# Altium footprint library Alcetronics_Devices.PcbLib: 71 footprints (part 2 of 5)
Each footprint in its own frame and in the unit in brackets; x right, y up, seen from the top. Pads: shape width x height; smd on the part's side, far side on the other; paste and mask are expansions set on the pad; w line width, h text height; cw(c..) or ccw(c..) is an arc to the next point about the centre after c.
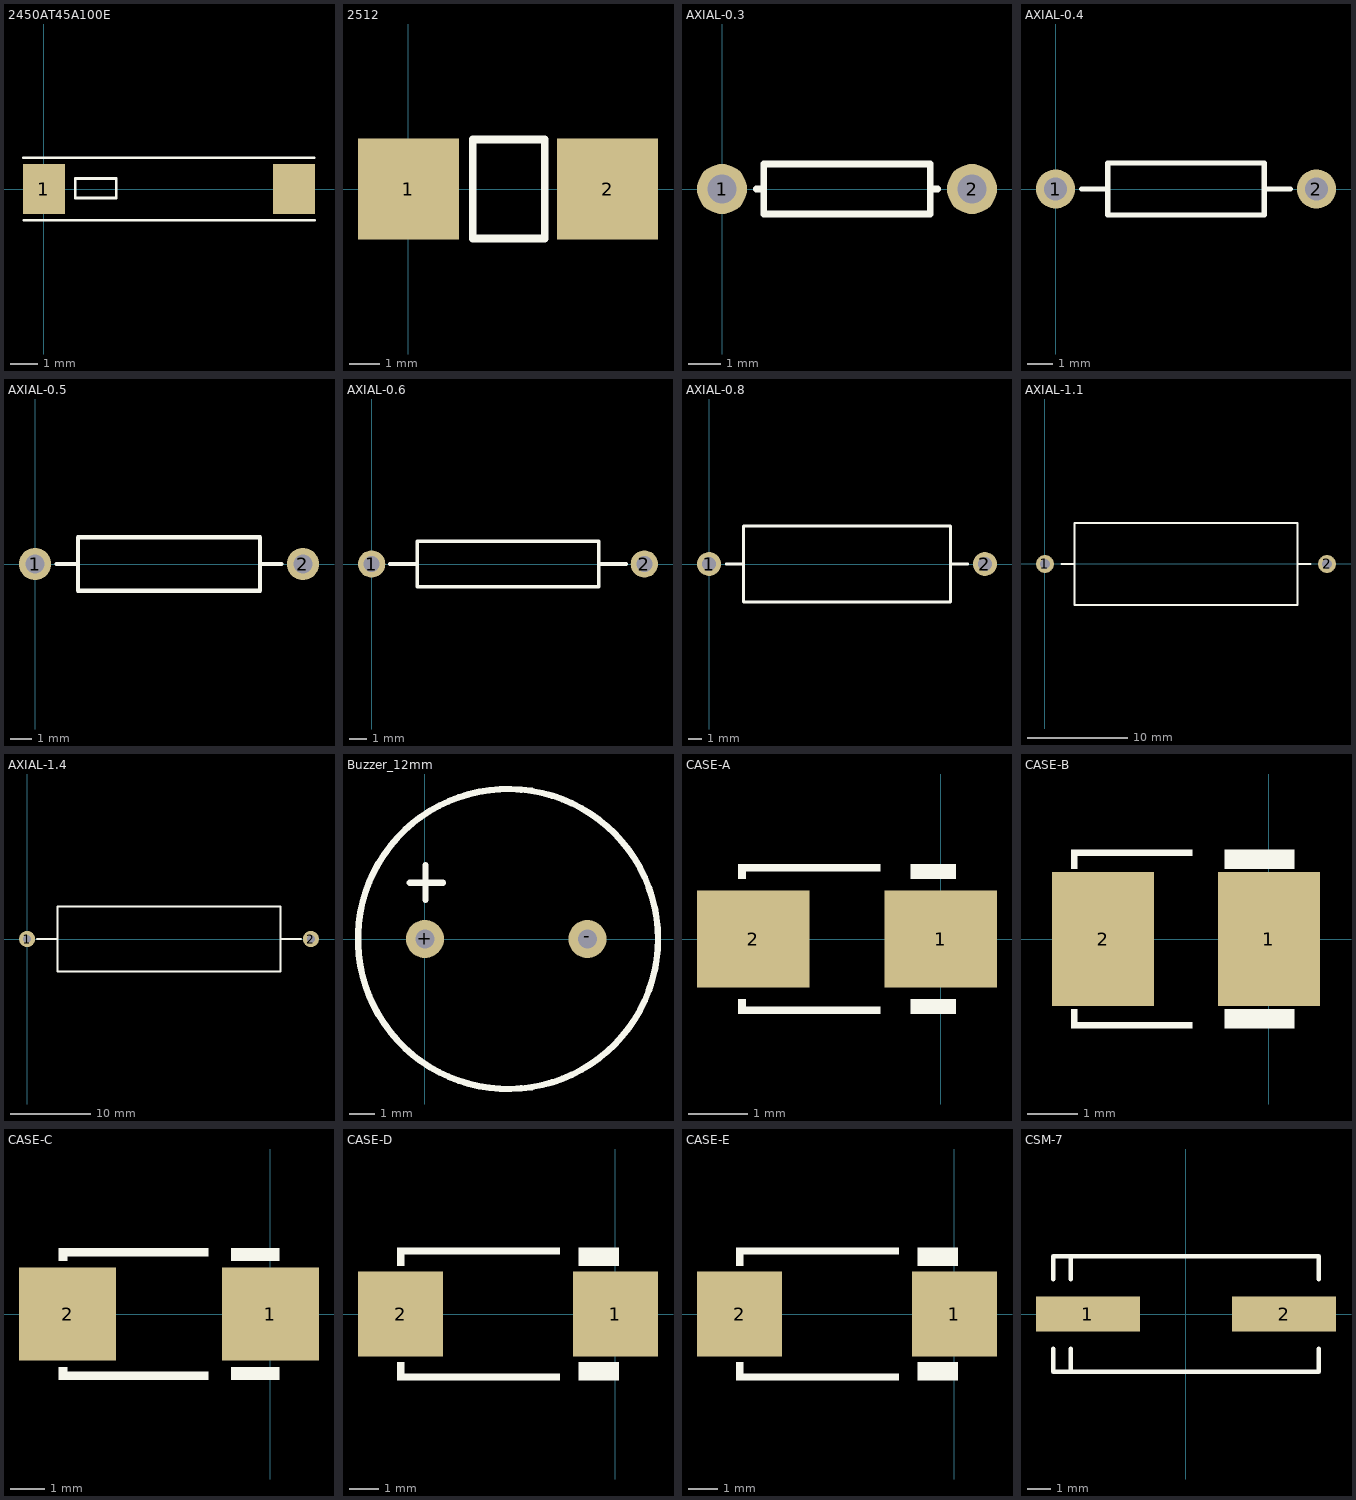
[diagram p1: the footprints below, top view; thin cyan lines are the x and y axes]

## 2450AT45A100E [mm]
pads (2):
  rect 1.5x1.8 smd: 1(0,0) ""(9,0)
Top Overlay:
  lines w0.1: -0.75,1.125 9.725,1.125 ; -0.725,-1.125 9.75,-1.125 ; 1.125,-0.325 2.075,-0.325 2.6,-0.325 2.6,0.375 1.125,0.375 1.125,-0.325

## 2512 [mil]
pads (2):
  rect 130x130 smd: 1(0,0) 2(257,0)
Top Overlay:
  lines w10: 83,-64 176,-64 176,64 83,64 83,-64

## AXIAL-0.3 [mil] "Resistor; 2 Leads"
pads (2):
  round 60 hole 35: 1(0,0) 2(300,0)
Top Overlay:
  lines w7.87: 41,0 50,0 ; 259,0 250,0 ; 250,0 250,-30 50,-30 50,30 250,30 250,0

## AXIAL-0.4 [mil] "Resistor; 2 Leads"
pads (2):
  round 60 hole 35: 1(0,0) 2(400,0)
Top Overlay:
  lines w7.87: 40,0 80,0 ; 320,0 360,0 ; 80,-40 320,-40 320,40 80,40 80,-40

## AXIAL-0.5 [mil] "500mil between pads, 340mil body length and 100mil body width"
height 100
pads (2):
  round 60 hole 35: 1(0,0) 2(500,0)
Top Overlay:
  lines w7.87: 40,0 80,0 ; 420,0 460,0 ; 80,-50 80,50 420,50 420,-50 80,-50

## AXIAL-0.6 [mil] "Axial L=15.24mm(0.6in) H=0.85mm"
pads (2):
  round 60 hole 35: 1(0,0) 2(600,0)
Top Overlay:
  lines w7.87: 40,0 100,0 ; 500,0 560,0 ; 100,-50 100,50 500,50 500,-50 100,-50

## AXIAL-0.8 [mil] "800mil between pads, 600mil body length and 220mil body width"
height 220
pads (2):
  round 70 hole 40: 1(0,0) 2(800,0)
Top Overlay:
  lines w7.87: 50,0 100,0 ; 700,0 750,0 ; 100,-110 100,110 245,110 545,110 700,110 700,-110 100,-110

## AXIAL-1.1 [mil] "1100mil between pads, 1070mil body length and 320mil body width"
height 320
pads (2):
  round 70 hole 40: 1(0,0) 2(1100,0)
Top Overlay:
  lines w7.87: 65,0 115,0 ; 985,0 1035,0 ; 115,-160 985,-160 985,160 115,160 115,-160

## AXIAL-1.4 [mil]
pads (2):
  round 80 hole 40: 1(0,0) 2(1400,0)
Top Overlay:
  lines w10: 50,0 150,0 ; 1250,0 1350,0 ; 150,-160 150,160 1250,160 1250,-160 150,-160

## Buzzer_12mm [mil] "12mm dia; holes 6.5mm"
height 472.44
pads (2):
  round 60 hole 30: +(0,0) -(255.91,0)
Top Overlay:
  circle w10: c130.91,0 r236.22
  lines w10: -23.62,88.58 28.54,88.58 ; 0.98,62.01 0.98,116.14

## CASE-A [mil]
pads (2):
  rect 75x65 smd: 1(0,0) 2(-125,0)
Top Overlay:
  rectangle: -20,-50 10,-40
  rectangle: -135,-50 -130,-40
  rectangle: -130,-50 -40,-45
  rectangle: -130,45 -40,50
  rectangle: -135,40 -130,50
  rectangle: -20,40 10,50

## CASE-B [mil]
pads (2):
  rect 80x105 smd: 1(0,0) 2(-130,0)
Top Overlay:
  rectangle: -35,-70 20,-55
  rectangle: -155,-70 -150,-55
  rectangle: -150,-70 -60,-65
  rectangle: -150,65 -60,70
  rectangle: -155,55 -150,70
  rectangle: -35,55 20,70

## CASE-C [mil]
pads (2):
  rect 110x105 smd: 1(0,0) 2(-230,0)
Top Overlay:
  rectangle: -45,60 10,75
  rectangle: -240,60 -230,75
  rectangle: -230,65 -70,75
  rectangle: -230,-75 -70,-65
  rectangle: -240,-75 -230,-60
  rectangle: -45,-75 10,-60

## CASE-D [mil]
height 115
pads (2):
  rect 115x115 smd: 1(0,0) 2(-290,0)
Top Overlay:
  rectangle: -295,80 -75,90
  rectangle: -295,65 -285,90
  rectangle: -50,65 5,90
  rectangle: -50,-90 5,-65
  rectangle: -295,-90 -285,-65
  rectangle: -295,-90 -75,-80

## CASE-E [mil]
height 160
pads (2):
  rect 115x115 smd: 1(0,0) 2(-290,0)
Top Overlay:
  rectangle: -295,-90 -75,-80
  rectangle: -295,-90 -285,-65
  rectangle: -50,-90 5,-65
  rectangle: -50,65 5,90
  rectangle: -295,65 -285,90
  rectangle: -295,80 -75,90

## CSM-7 [mm] "Quartz Crystal, SM; 2 Leads; Body 11.4 x 4.8 x 5 mm (LxWxH)"
height 5
pads (2):
  rect 4.5x1.5 smd: 1(-4.25,0) 2(4.25,0)
Top Overlay:
  lines w0.2: -5.75,-1.5 -5.75,-2.5 5.75,-2.5 5.75,-1.5 ; -5.75,1.5 -5.75,2.5 5.75,2.5 5.75,1.5 ; -5,-2.5 -5,-1.5 ; -5,1.5 -5,2.5